# Altium schematic symbol library lcd.SchLib: 26 symbols
Pins are listed as number, name and electrical type; pins without a type are passive.

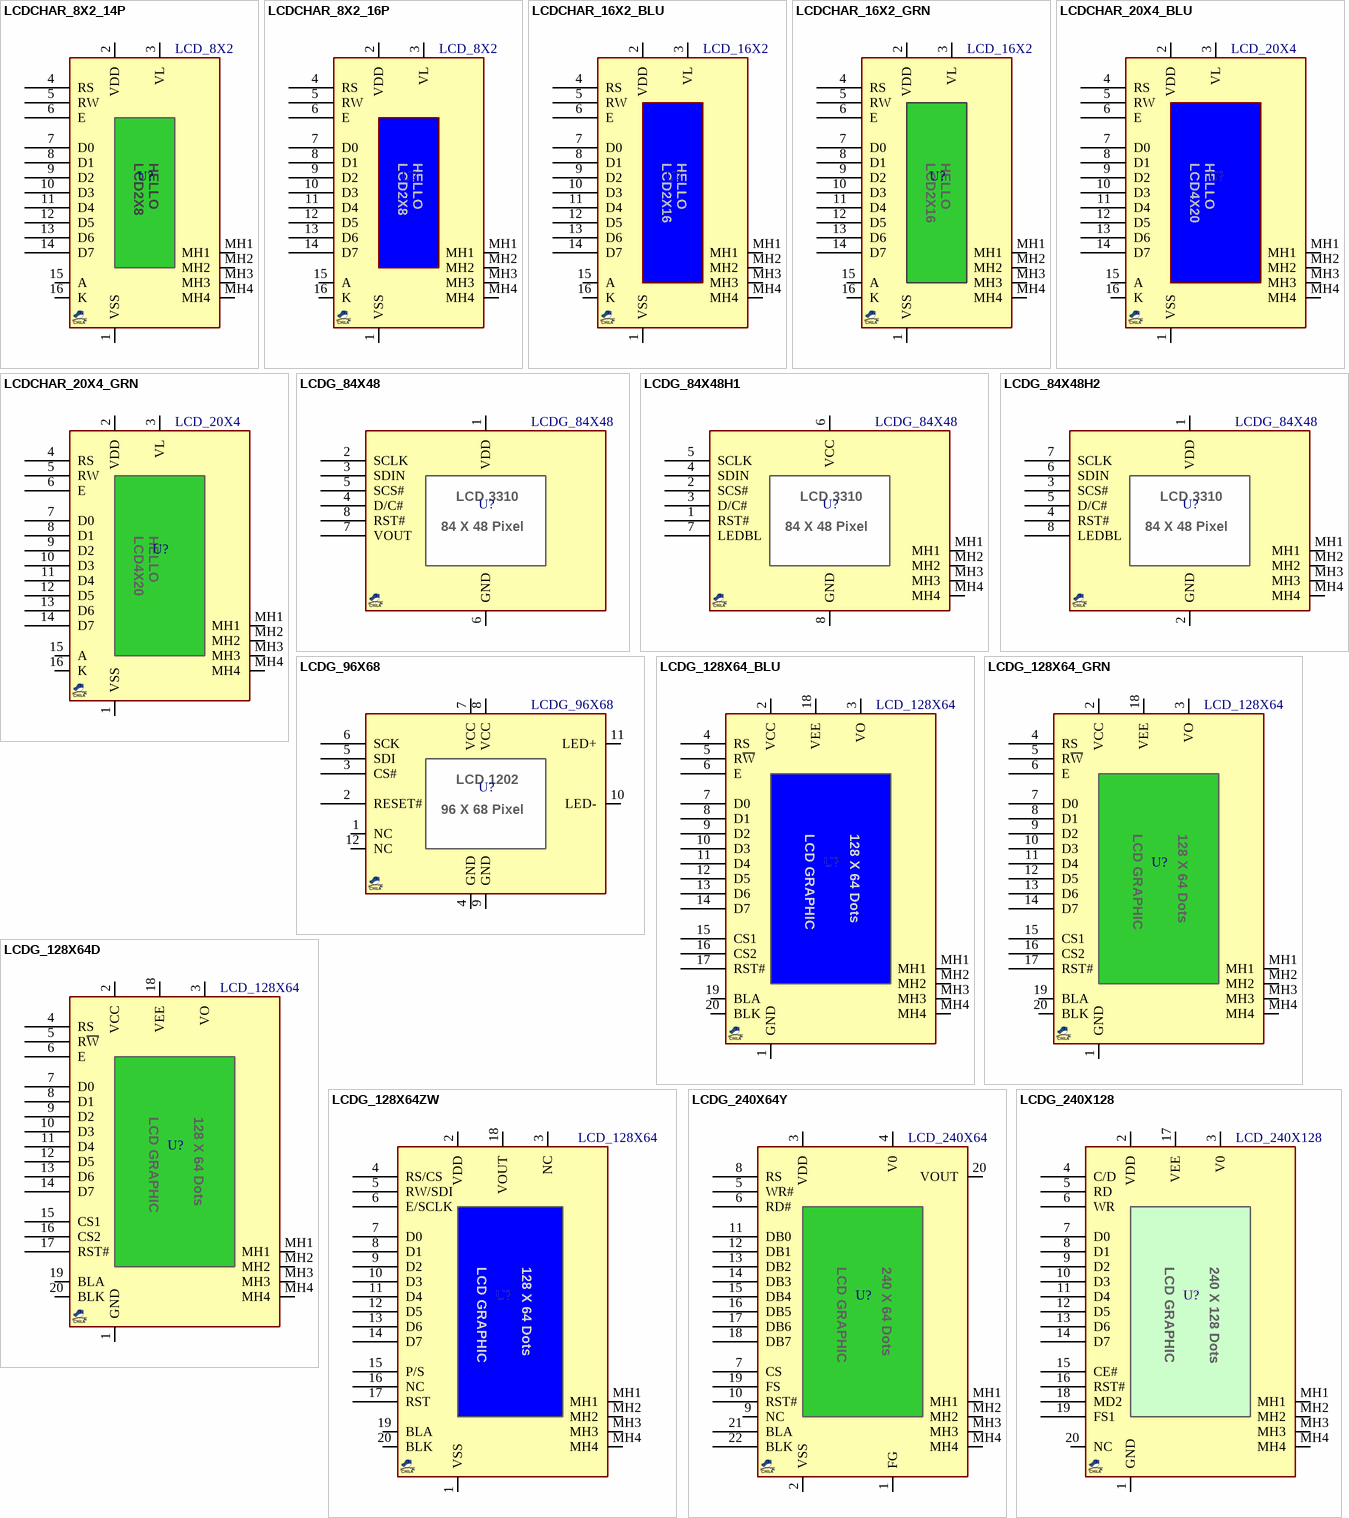
[diagram p0: symbols LCDCHAR_8X2_14P to LCDG_240X128]

## LCDCHAR_8X2_14P
designator U?, comment LCD_8X2
LCD Character Disp, 8X2, header2x7; MANF: Newhaven; MANF_P#: NHD‐0208BZ‐FL‐GBW; PARAM2: Gray, Yellow/Green LED Backlight, 5V; PARAM: 2 lines x 8 characters; VALUE: LCD_8X2
footprint LCDCHAR_8X2_14P (LCD Characters Display, 2linesX8char, header2x7 + 2)
pins: 1 VSS, 2 VDD, 3 VL, 4 RS, 5 RW, 6 E, 7 D0, 8 D1, 9 D2, 10 D3, 11 D4, 12 D5, 13 D6, 14 D7, 15 A, 16 K, MH1, MH2, MH3, MH4
text: LCD2X8; HELLO

## LCDCHAR_8X2_16P
designator U?, comment LCD_8X2
LCD Character Disp, 8X2; MANF: Hantronix; MANF_P#: HDM08216L-3-L30S; PARAM2: Gray, Yellow LED Backlight, 5V; PARAM: 2 lines x 8 characters; VALUE: LCD_8X2
footprint LCDCHAR_8X2_16P (LCD Characters Display, 2linesX8char, header2x8)
pins: 1 VSS, 2 VDD, 3 VL, 4 RS, 5 RW, 6 E, 7 D0, 8 D1, 9 D2, 10 D3, 11 D4, 12 D5, 13 D6, 14 D7, 15 A, 16 K, MH1, MH2, MH3, MH4
text: LCD2X8; HELLO

## LCDCHAR_16X2_BLU
designator U?, comment LCD_16X2
LCD Character Disp, 16X2; MANF: Newhaven; MANF_P#: NHD-0216K3Z-NSW-BBW-V3; PARAM2: Blue back, White, 5V; PARAM: 2 lines x 16 characters; VALUE: LCD_16X2
footprint LCDCHAR_16X2_BLU (LCD Characters Display, 2linesX16char, Blue, header1x16)
pins: 1 VSS, 2 VDD, 3 VL, 4 RS, 5 RW, 6 E, 7 D0, 8 D1, 9 D2, 10 D3, 11 D4, 12 D5, 13 D6, 14 D7, 15 A, 16 K, MH1, MH2, MH3, MH4
text: LCD2X16; HELLO

## LCDCHAR_16X2_GRN
designator U?, comment LCD_16X2
LCD Character Disp, 16X2; MANF: elcodis, sunrom; MANF_P#: JHD162A, TS1620A-20; PARAM2: Green back, Gray, 5V; PARAM: 2 lines x 16 characters; VALUE: LCD_16X2
footprint LCDCHAR_16X2_GRN (LCD Characters Display, 2linesX16char, Green, header1x16)
pins: 1 VSS, 2 VDD, 3 VL, 4 RS, 5 RW, 6 E, 7 D0, 8 D1, 9 D2, 10 D3, 11 D4, 12 D5, 13 D6, 14 D7, 15 A, 16 K, MH1, MH2, MH3, MH4
text: LCD2X16; HELLO

## LCDCHAR_20X4_BLU
designator U?, comment LCD_20X4
LCD Character Disp, 20X4; MANF: Newhaven; MANF_P#: NHD-0420D3Z-NSW-BBW-V3; PARAM2: Blue back, White, 5V; PARAM: 4 lines x 20 characters; VALUE: LCD_20X4
footprint LCDCHAR_20X4_BLU (LCD Characters Display, 4linesX20char, Blue, header1x16)
pins: 1 VSS, 2 VDD, 3 VL, 4 RS, 5 RW, 6 E, 7 D0, 8 D1, 9 D2, 10 D3, 11 D4, 12 D5, 13 D6, 14 D7, 15 A, 16 K, MH1, MH2, MH3, MH4
text: LCD4X20; HELLO

## LCDCHAR_20X4_GRN
designator U?, comment LCD_20X4
LCD Character Disp, 20X4; MANF: Sunrom; MANF_P#: JHD204A; PARAM2: Green back, Gray, 5V; PARAM: 4 lines x 20 characters; VALUE: LCD_20X4
footprint LCDCHAR_20X4_GRN (LCD Characters Display, 4linesX20char, Green, header1x16)
pins: 1 VSS, 2 VDD, 3 VL, 4 RS, 5 RW, 6 E, 7 D0, 8 D1, 9 D2, 10 D3, 11 D4, 12 D5, 13 D6, 14 D7, 15 A, 16 K, MH1, MH2, MH3, MH4
text: LCD4X20; HELLO

## LCDG_84X48
designator U?
LCD, monochrome, 1.5", 84X48; MANF: Philips; MANF_P#: NOKIA 3310, 5110, PCD8544; PARAM2: 2.7~3.3VCC; PARAM: monochrome, 1.5", 84X48; VALUE: LCDG_84X48
footprint LCDG_1P5_84X48 (Footprint not found)
pins: 1 VDD, 2 SCLK, 3 SDIN, 4 D/C#, 5 SCS#, 6 GND, 7 VOUT, 8 RST#
text: LCD 3310; 84 X 48 Pixel

## LCDG_84X48H1
designator U?, comment LCDG_84X48
LCD, monochrome, 1.5", 84X48, header; MANF: Philips; MANF_P#: NOKIA 3310, 5110, PCD8544; PARAM2: 2.7~3.3VCC; PARAM: monochrome, 1.5", 84X48; PRICE: ECA; VALUE: LCDG_84X48
footprint LCDG_1P5_84X48H1 (Footprint not found)
pins: 1 RST#, 2 SCS#, 3 D/C#, 4 SDIN, 5 SCLK, 6 VCC, 7 LEDBL, 8 GND, MH1, MH2, MH3, MH4
text: LCD 3310; 84 X 48 Pixel

## LCDG_84X48H2
designator U?, comment LCDG_84X48
LCD, monochrome, 1.5", 84X48, header; MANF: Philips; MANF_P#: NOKIA 3310, 5110, PCD8544; PARAM2: 2.7~3.3VCC; PARAM: monochrome, 1.5", 84X48; PRICE: IranModule; VALUE: LCDG_84X48
footprint LCDG_1P5_84X48H2 (Footprint not found)
pins: 1 VDD, 2 GND, 3 SCS#, 4 RST#, 5 D/C#, 6 SDIN, 7 SCLK, 8 LEDBL, MH1, MH2, MH3, MH4
text: LCD 3310; 84 X 48 Pixel

## LCDG_96X68
designator U?
LCD Monochrome, 1.3", 96X68; MANF: Nokia; MANF_P#: 1202, 1203, 1280; PARAM2: 3.3VIO; PARAM: Monochrome, 1.3", 96X68; PRICE: 4t; VALUE: LCDG_96X68
footprint LCDG_1P3_96X68 (LCD Nokia 1202, 1203, 1280)
pins: 1 NC, 2 RESET#, 3 CS#, 4 GND, 5 SDI, 6 SCK, 7 VCC, 8 VCC, 9 GND, 10 LED-, 11 LED+, 12 NC
text: LCD 1202; 96 X 68 Pixel

## LCDG_128X64_BLU
designator U?, comment LCD_128X64
LCD Graphic Disp, 128X64, with KS108 Controller; MANF_P#: TS12864A-2, LCD12864A, GDM12864A; PARAM2: Blue back, white, 5V; PARAM: 128X64 Dots, 2.9"; MANF: -; VALUE: LCD_128X64
footprint LCDG_128X64_BLU (LCD Graphic Disp, 128X64, TS12864A-2)
pins: 1 GND, 2 VCC, 3 VO, 4 RS, 5 R~{W}, 6 E, 7 D0, 8 D1, 9 D2, 10 D3, 11 D4, 12 D5, 13 D6, 14 D7, 15 CS1, 16 CS2, 17 RST#, 18 VEE, 19 BLA, 20 BLK, MH1, MH2, MH3, MH4
text: LCD GRAPHIC; 128 X 64 Dots

## LCDG_128X64_GRN
designator U?, comment LCD_128X64
LCD Graphic Disp, 128X64, with KS108 Controller; MANF: Winstar; MANF_P#: TS12864A-2, WG12864A-1; PARAM2: Green back, Gray, 5V; PARAM: 128X64 Dots, 2.9"; VALUE: LCD_128X64
footprint LCDG_128X64_GRN (LCD Graphic Disp, 128X64, TS12864A-2)
pins: 1 GND, 2 VCC, 3 VO, 4 RS, 5 R~{W}, 6 E, 7 D0, 8 D1, 9 D2, 10 D3, 11 D4, 12 D5, 13 D6, 14 D7, 15 CS1, 16 CS2, 17 RST#, 18 VEE, 19 BLA, 20 BLK, MH1, MH2, MH3, MH4
text: LCD GRAPHIC; 128 X 64 Dots

## LCDG_128X64D
designator U?, comment LCD_128X64
LCD Graphic Disp, 128X64, 78X70mm, 2.9"; MANF: Vishay, Winstar; MANF_P#: LCD-128H064D, WDG0151-TMI; PARAM2: Green back, Gray, 5V; PARAM: 128X64 Dots, 2.9"; VALUE: LCD_128X64
footprint LCDG_128X64D (LCD Graphic Disp, 128X64, 78X70mm)
pins: 1 GND, 2 VCC, 3 VO, 4 RS, 5 R~{W}, 6 E, 7 D0, 8 D1, 9 D2, 10 D3, 11 D4, 12 D5, 13 D6, 14 D7, 15 CS1, 16 CS2, 17 RST#, 18 VEE, 19 BLA, 20 BLK, MH1, MH2, MH3, MH4
text: LCD GRAPHIC; 128 X 64 Dots

## LCDG_128X64ZW
designator U?, comment LCD_128X64
LCD Graphic Disp, 128X64, ST7920 Controller, SERIAL/PARALLEL; MANF: DIGOLE; MANF_P#: 12864ZW; PARAM2: Blue back, white, 4.5~5.5V; PARAM: 128X64 Dots, 2.9", ST7920; VALUE: LCD_128X64
footprint LCDG_128X64_BLU (LCD Graphic Disp, 128X64, TS12864A-2)
pins: 1  VSS, 2  VDD, 3 NC, 4  RS/CS, 5  RW/SDI, 6  E/SCLK, 7  D0, 8  D1, 9  D2, 10 D3, 11 D4, 12 D5, 13 D6, 14 D7, 15 P/S, 16 NC, 17 RST, 18 VOUT, 19 BLA, 20 BLK, MH1, MH2, MH3, MH4
text: LCD GRAPHIC; 128 X 64 Dots

## LCDG_240X64Y
designator U?, comment LCD_240X64
LCD Graphic Disp, 240X64, 180X65mm, 5.2"; MANF: Vishay, Winstar; MANF_P#: YB24064-B; PARAM2: Green back, Gray, 5V; PARAM: 240X64 Dots, 5.2"; VALUE: LCD_240X64
footprint LCDG_240X64Y (LCD Graphic Disp, 240X64, YB24064-B)
pins: 1 FG, 2 VSS, 3 VDD, 4 V0, 5 WR#, 6 RD#, 7 CS, 8 RS, 9 NC, 10 RST#, 11 DB0, 12 DB1, 13 DB2, 14 DB3, 15 DB4, 16 DB5, 17 DB6, 18 DB7, 19 FS, 20 VOUT, 21 BLA, 22 BLK, MH1, MH2, MH3, MH4
text: LCD GRAPHIC; 240 X 64 Dots

## LCDG_240X128
designator U?, comment LCD_240X128
LCD Graphic Disp, 240X128, with T6963 Controller; MANF: Winstar; MANF_P#: TS12864A-2, WG12864A-1; PARAM2: Green back, Gray, 5V; PARAM: 128X64 Dots, 4.7"; VALUE: LCD_240X128
footprint LCDG_240X128 (LCD Graphic Disp, 240X128, TS240128 With T6963 Controller, 144x104x12mm)
pins: 1 GND, 2 VDD, 3 V0, 4 C/D, 5 RD, 6 WR, 7 D0, 8 D1, 9 D2, 10 D3, 11 D4, 12 D5, 13 D6, 14 D7, 15 CE#, 16 RST#, 17 VEE, 18 MD2, 19 FS1, 20 NC, MH1, MH2, MH3, MH4
text: LCD GRAPHIC; 240 X 128 Dots

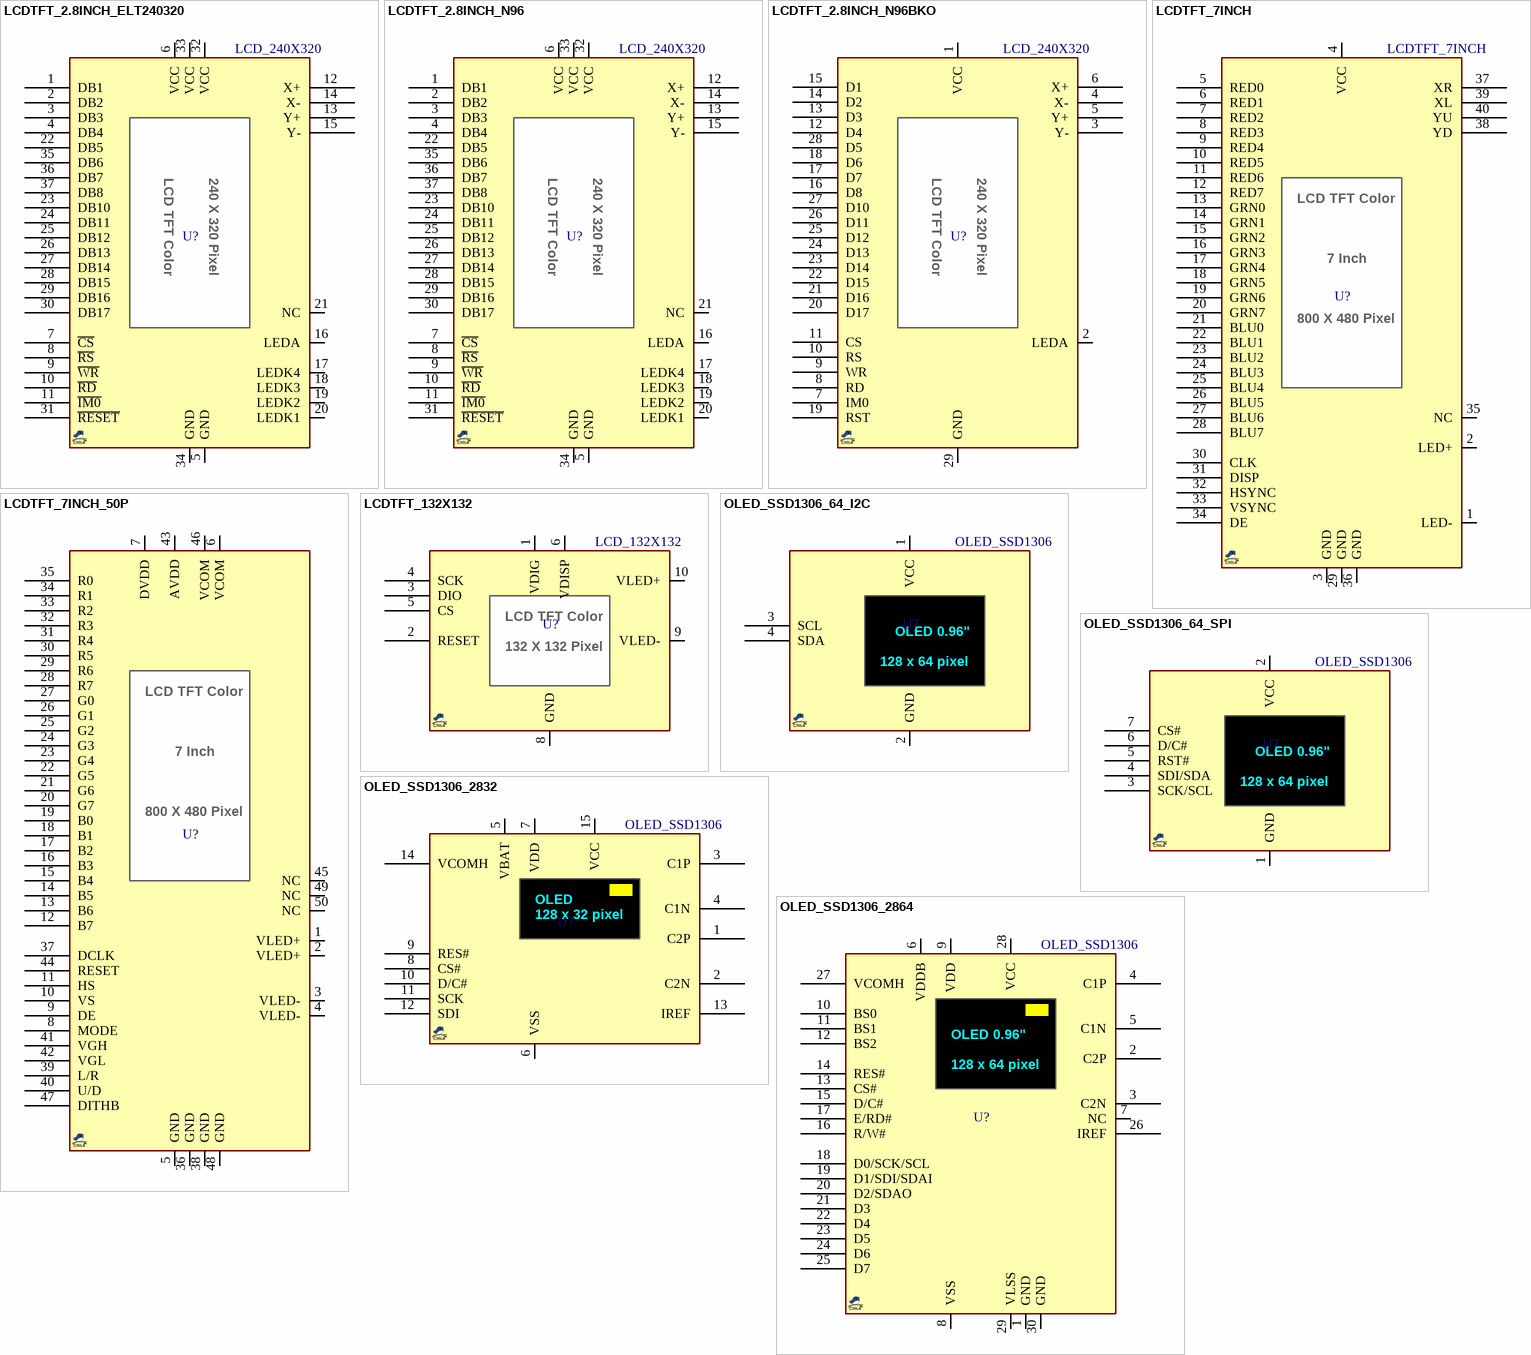
[diagram p1: symbols LCDTFT_2.8INCH_ELT240320 to OLED_SSD1306_2864]

## LCDTFT_2.8INCH_ELT240320
designator U?, comment LCD_240X320
LCD TFT Color, 2.8", 240X320, with Touch; MANF: China; MANF_P#: ELT240320ATP; PARAM2: 5VCC, 2.5~3.3VIO; PARAM: 240X320 pixel, 2.8", Color; VALUE: LCD_240X320
footprint LCDTFT_2P8_N96 (LCD, TFT, 2.8" N96)
pins: 1 DB1, 2 DB2, 3 DB3, 4 DB4, 5 GND, 6 VCC, 7 ~{CS}, 8 ~{RS}, 9 ~{WR}, 10 ~{RD}, 11 ~{IM0}, 12 X+, 13 Y+, 14 X-, 15 Y-, 16 LEDA, 17 LEDK4, 18 LEDK3, 19 LEDK2, 20 LEDK1, 21 NC, 22 DB5, 23 DB10, 24 DB11, 25 DB12, 26 DB13, 27 DB14, 28 DB15, 29 DB16, 30 DB17, 31 ~{RESET}, 32 VCC, 33 VCC, 34 GND, 35 DB6, 36 DB7, 37 DB8
text: LCD TFT Color; 240 X 320 Pixel

## LCDTFT_2.8INCH_N96
designator U?, comment LCD_240X320
LCD TFT Color, 2.8", 240X320, with Touch; MANF: Nokia; MANF_P#: N96; PARAM2: 5VCC, 2.5~3.3VIO; PARAM: 240X320 pixel, 2.8", Color; VALUE: LCD_240X320
footprint LCDTFT_2P8_N96 (LCD, TFT, 2.8" N96)
pins: 1 DB1, 2 DB2, 3 DB3, 4 DB4, 5 GND, 6 VCC, 7 ~{CS}, 8 ~{RS}, 9 ~{WR}, 10 ~{RD}, 11 ~{IM0}, 12 X+, 13 Y+, 14 X-, 15 Y-, 16 LEDA, 17 LEDK4, 18 LEDK3, 19 LEDK2, 20 LEDK1, 21 NC, 22 DB5, 23 DB10, 24 DB11, 25 DB12, 26 DB13, 27 DB14, 28 DB15, 29 DB16, 30 DB17, 31 ~{RESET}, 32 VCC, 33 VCC, 34 GND, 35 DB6, 36 DB7, 37 DB8
text: LCD TFT Color; 240 X 320 Pixel

## LCDTFT_2.8INCH_N96BKO
designator U?, comment LCD_240X320
LCD TFT Color, 2.8", 240X320, with Touch, Breakout; MANF: Nokia; MANF_P#: N96; PARAM2: 5VCC, 2.5~3.3VIO; PARAM: 240X320 pixel, 2.8", Color; VALUE: LCD_240X320
footprint LCDTFT_2P8_N96 (LCD, TFT, 2.8" N96)
pins: 1 VCC, 2 LEDA, 3 Y-, 4 X-, 5 Y+, 6 X+, 7 IM0, 8 RD, 9 WR, 10 RS, 11 CS, 12 D4, 13 D3, 14 D2, 15 D1, 16 D8, 17 D7, 18 D6, 19 RST, 20 D17, 21 D16, 22 D15, 23 D14, 24 D13, 25 D12, 26 D11, 27 D10, 28 D5, 29 GND
text: LCD TFT Color; 240 X 320 Pixel

## LCDTFT_7INCH
designator U?
LCD TFT Color, 7", 800X480, with Touch; MANF: China; MANF_P#: ELT240320ATP; PARAM: Color, 7", 800X480, with Touch; VALUE: LCDTFT_7INCH
footprint LCDTFT_2P8_N96 (LCD, TFT, 2.8" N96)
pins: 1 LED-, 2 LED+, 3 GND, 4 VCC, 5 RED0, 6 RED1, 7 RED2, 8 RED3, 9 RED4, 10 RED5, 11 RED6, 12 RED7, 13 GRN0, 14 GRN1, 15 GRN2, 16 GRN3, 17 GRN4, 18 GRN5, 19 GRN6, 20 GRN7, 21 BLU0, 22 BLU1, 23 BLU2, 24 BLU3, 25 BLU4, 26 BLU5, 27 BLU6, 28 BLU7, 29 GND, 30 CLK, 31 DISP, 32 HSYNC, 33 VSYNC, 34 DE, 35 NC, 36 GND, 37 XR, 38 YD, 39 XL, 40 YU
text: LCD TFT Color; 7 Inch; 800 X 480 Pixel

## LCDTFT_7INCH_50P
designator U?, comment LCDTFT_7INCH  (value not drawn)
LCD TFT Color, 7", 800X480; MANF: Microtips; MANF_P#: MTD0700BIG-1; PARAM: Color, 7", 800X480; VALUE: LCDTFT_7INCH
footprint LCDTFT_2P8_N96 (LCD, TFT, 2.8" N96)
pins: 1 VLED+, 2 VLED+, 3 VLED-, 4 VLED-, 5 GND, 6 VCOM, 7 DVDD, 8 MODE, 9 DE, 10 VS, 11 HS, 12 B7, 13 B6, 14 B5, 15 B4, 16 B3, 17 B2, 18 B1, 19 B0, 20 G7, 21 G6, 22 G5, 23 G4, 24 G3, 25 G2, 26 G1, 27 G0, 28 R7, 29 R6, 30 R5, 31 R4, 32 R3, 33 R2, 34 R1, 35 R0, 36 GND, 37 DCLK, 38 GND, 39 L/R, 40 U/D, 41 VGH, 42 VGL, 43 AVDD, 44 RESET, 45 NC, 46 VCOM, 47 DITHB, 48 GND, 49 NC, 50 NC
text: LCD TFT Color; 7 Inch; 800 X 480 Pixel

## LCDTFT_132X132
designator U?, comment LCD_132X132
LCD TFT 12Bit Color, 1.5", 132X132; MANF: Nokia; MANF_P#: 6610, 6220, 6100, 2600, 2610; PARAM2: 3.3VIO; PARAM: 12Bit Color, 1.5", 132X132; VALUE: LCD_132X132
footprint LCDTFT_1P5_132X132 (LCD, NOKIA 6610, 6220, 6100, 2600, 2610)
pins: 1 VDIG, 2 RESET, 3 DIO, 4 SCK, 5 CS, 6 VDISP, 8 GND, 9 VLED-, 10 VLED+
text: LCD TFT Color; 132 X 132 Pixel

## OLED_SSD1306_64_I2C
designator U?, comment OLED_SSD1306
OLED, SSD1306, 0.96", 128X64, BREAKOUT I2C; MANF_P#: OLED_SSD1306_I2C; PARAM2: 3.3/5VCC, -20~70oC; PARAM: 2 Colors, 0.96", 128X64; MANF: -; VALUE: OLED_SSD1306
footprint OLED_SSD1306_64_I2C (OLED SS1306 Breakout, 128X64, I2C)
pins: 1 VCC, 2 GND, 3 SCL, 4 SDA
text: OLED 0.96"; 128 x 64 pixel

## OLED_SSD1306_64_SPI
designator U?, comment OLED_SSD1306
OLED, SSD1306, 0.96", 128X64, BREAKOUT SPI; MANF_P#: OLED_SSD1306_I2C; PARAM2: 3.3/5VCC, -20~70oC; PARAM: 2 Colors, 0.96", 128X64; MANF: -; VALUE: OLED_SSD1306
footprint OLED_SSD1306_64_SPI (OLED SS1306 Breakout, 128X64, SPI)
pins: 1 GND, 2 VCC, 3 SCK/SCL, 4 SDI/SDA, 5 RST#, 6 D/C#, 7 CS#
text: OLED 0.96"; 128 x 64 pixel

## OLED_SSD1306_2832
designator U?, comment OLED_SSD1306
OLED, SSD1306, 0.91", 128X64; MANF_P#: UG-2832HSWEG04; PARAM2: 1.65~3.3VDD, 9Vcc, -20~70oC; PARAM: 2 Colors, 0.91", 128X32; MANF: -; VALUE: OLED_SSD1306
footprint OLED_SSD1306_2832 (OLED Display UG-2832HSWEG04)
pins: 1 C2P, 2 C2N, 3 C1P, 4 C1N, 5 VBAT, 6 VSS, 7 VDD, 8 CS#, 9 RES#, 10 D/C#, 11 SCK, 12 SDI, 13 IREF, 14 VCOMH, 15 VCC
text: OLED; 128 x 32 pixel

## OLED_SSD1306_2864
designator U?, comment OLED_SSD1306
OLED, SSD1306, 0.96", 128X64; MANF_P#: UG-2864HMBEG01; PARAM2: 1.65~3.3VDD, 9Vcc, -20~70oC; PARAM: 2 Colors, 0.96", 128X64; MANF: -; VALUE: OLED_SSD1306
footprint OLED_SSD1306_64_SPI (OLED SS1306 Breakout, 128X64, SPI)
pins: 1 GND, 2 C2P, 3 C2N, 4 C1P, 5 C1N, 6 VDDB, 7 NC, 8 VSS, 9 VDD, 10 BS0, 11 BS1, 12 BS2, 13 CS#, 14 RES#, 15 D/C#, 16 R/W#, 17 E/RD#, 18 D0/SCK/SCL, 19 D1/SDI/SDAI, 20 D2/SDAO, 21 D3, 22 D4, 23 D5, 24 D6, 25 D7, 26 IREF, 27 VCOMH, 28 VCC, 29 VLSS, 30 GND
text: OLED 0.96"; 128 x 64 pixel